# Altium schematic symbol library MP2459GJ-Z.Schlib: 1 symbol
Pins are listed as number, name and electrical type; pins without a type are passive.

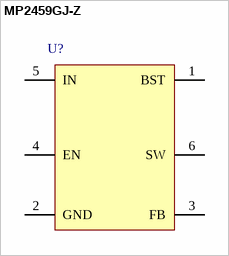
[diagram p0: symbol MP2459GJ-Z]

## MP2459GJ-Z
designator U?
pins: 1 BST, 2 GND, 3 FB, 4 EN, 5 IN, 6 SW